# Altium schematic symbol library Header_TE_Connectivity_87224-3_3POS.SchLib: 1 symbol
Pins are listed as number, name and electrical type; pins without a type are passive.

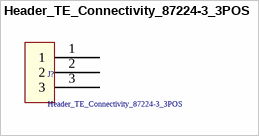
[diagram p0: symbol Header_TE_Connectivity_87224-3_3POS]

## Header_TE_Connectivity_87224-3_3POS
designator J?
Headers & Wire Housings UNSHRD VERT SNGL 3; Supplier 1: Mouser; Supplier Part Number 1: 571-872243
footprint Header_TE_Connectivity_87224-3_3POS (Headers & Wire Housings UNSHRD VERT SNGL 3)
pins: 1, 2, 3